# Altium footprint library NAVIGATION.PcbLib: 31 footprints (part 2 of 2)
Each footprint in its own frame and in the unit in brackets; x right, y up, seen from the top. Pads: shape width x height; smd on the part's side, far side on the other; paste and mask are expansions set on the pad; w line width, h text height; cw(c..) or ccw(c..) is an arc to the next point about the centre after c.
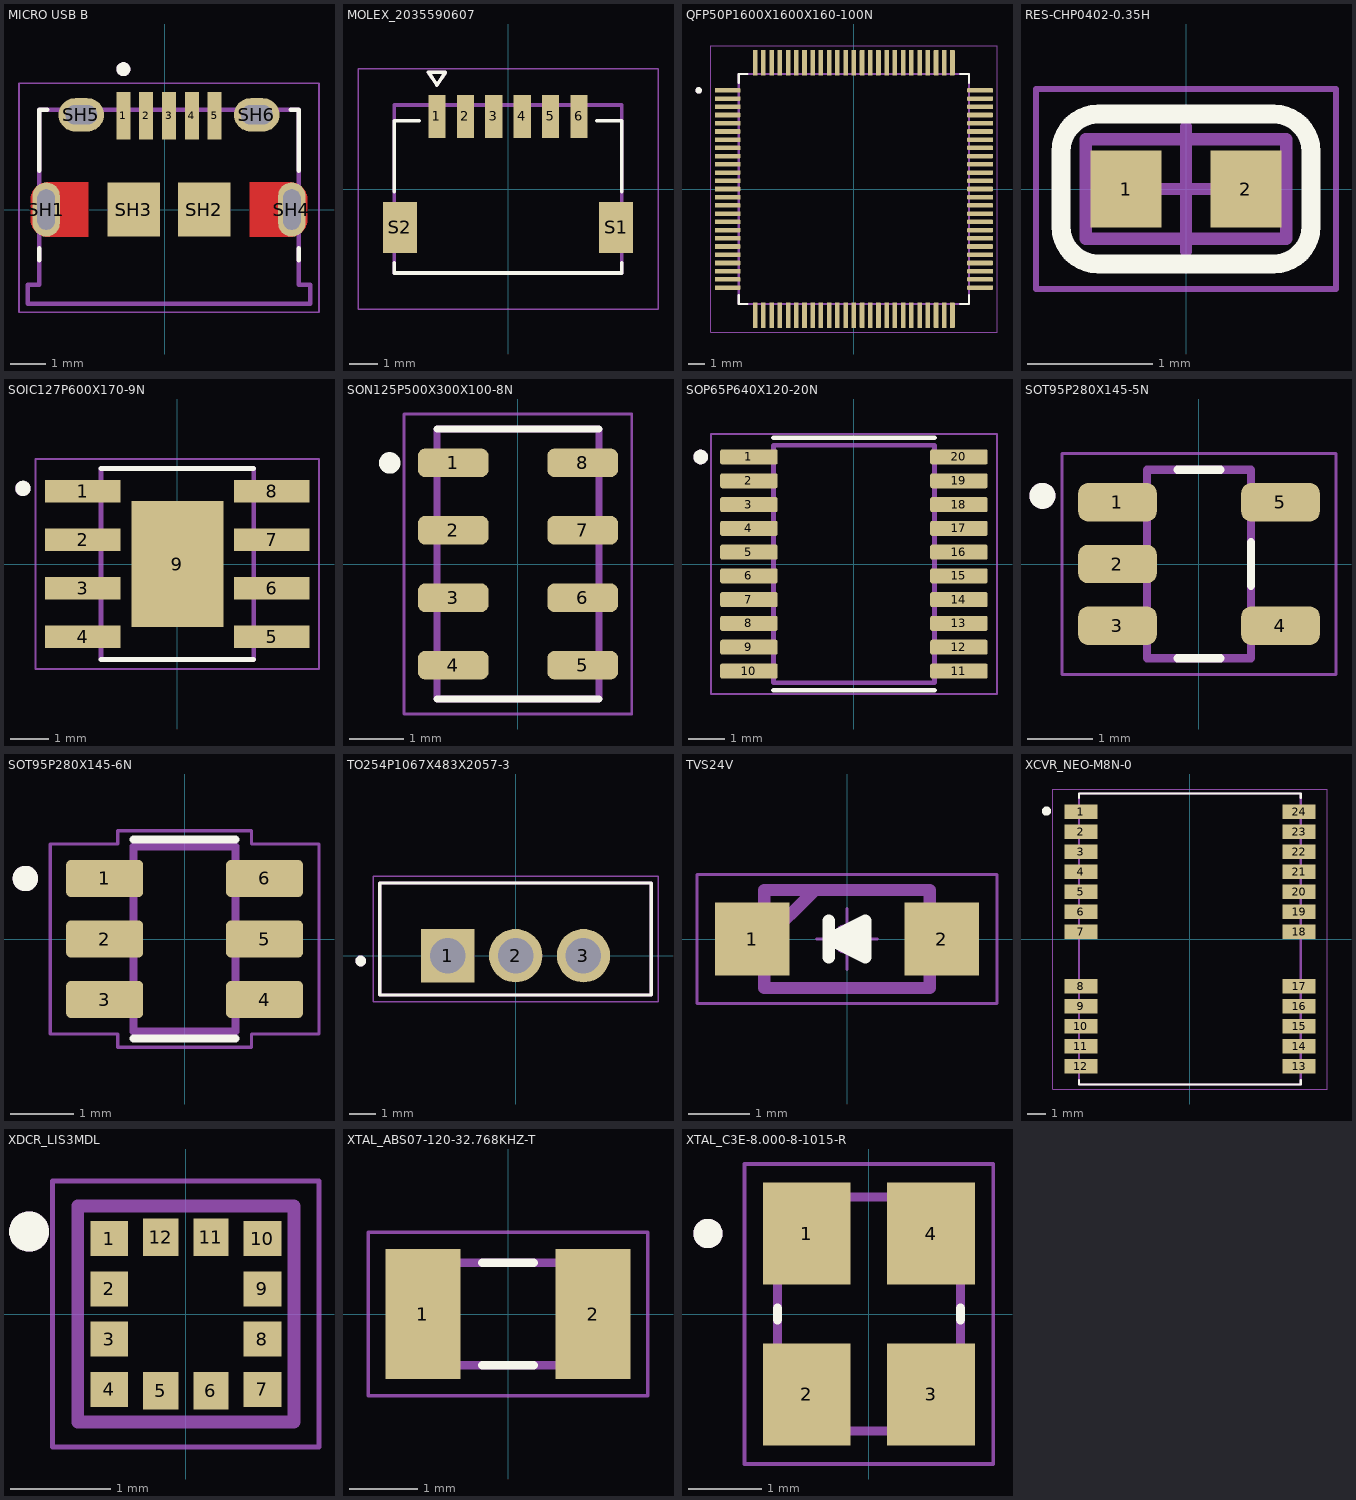
[diagram p1: the footprints below, top view; thin cyan lines are the x and y axes]

## MICRO USB B [mm]
pads (11):
  rect 0.4x1.35 smd: 1(-1.173,2.675) 2(-0.523,2.675) 3(0.127,2.675) 4(0.777,2.675) 5(1.427,2.675)
  oval 0.775x1.55 hole 0.5 slot 1.15 at 90 deg mask+0: SH1(-3.373,0) SH4(3.627,0)
  rect 1.5x1.55 smd: SH2(1.127,0) SH3(-0.873,0)
  oval 1.3x0.95 hole 0.55 slot 0.9 at 0 deg: SH5(-2.373,2.7) SH6(2.627,2.7)
Top Layer:
  region: -2.173,-0.775 -3.318,-0.775 -3.344,-0.774 -3.37,-0.772 -3.396,-0.769 -3.422,-0.764 -3.447,-0.758 -3.473,-0.751 -3.497,-0.742 -3.521,-0.732 -3.545,-0.721 -3.568,-0.708 -3.59,-0.694 -3.612,-0.68 -3.633,-0.664 -3.653,-0.647 -3.672,-0.629 -3.69,-0.61 -3.707,-0.59 -3.723,-0.569 -3.737,-0.547 -3.751,-0.525 -3.764,-0.502 -3.775,-0.478 -3.785,-0.454 -3.794,-0.43 -3.801,-0.404 -3.807,-0.379 -3.812,-0.353 -3.815,-0.327 -3.817,-0.301 -3.818,-0.275 -3.818,0.275 -3.817,0.301 -3.815,0.327 -3.812,0.353 -3.807,0.379 -3.801,0.404 -3.794,0.43 -3.785,0.454 -3.775,0.478 -3.764,0.502 -3.751,0.525 -3.737,0.547 -3.723,0.569 -3.707,0.59 -3.69,0.61 -3.672,0.629 -3.653,0.647 -3.633,0.664 -3.612,0.68 -3.59,0.694 -3.568,0.708 -3.545,0.721 -3.521,0.732 -3.497,0.742 -3.473,0.751 -3.447,0.758 -3.422,0.764 -3.396,0.769 -3.37,0.772 -3.344,0.774 -3.318,0.775 -2.173,0.775
  region: 3.598,0.774 3.624,0.772 3.65,0.769 3.676,0.764 3.701,0.758 3.727,0.751 3.751,0.742 3.775,0.732 3.799,0.721 3.822,0.708 3.844,0.694 3.866,0.68 3.887,0.664 3.907,0.647 3.926,0.629 3.944,0.61 3.961,0.59 3.977,0.569 3.991,0.547 4.005,0.525 4.018,0.502 4.029,0.478 4.039,0.454 4.048,0.43 4.055,0.404 4.061,0.379 4.066,0.353 4.069,0.327 4.071,0.301 4.072,0.275 4.072,-0.275 4.071,-0.301 4.069,-0.327 4.066,-0.353 4.061,-0.379 4.055,-0.404 4.048,-0.43 4.039,-0.454 4.029,-0.478 4.018,-0.502 4.005,-0.525 3.991,-0.547 3.977,-0.569 3.961,-0.59 3.944,-0.61 3.926,-0.629 3.907,-0.647 3.887,-0.664 3.866,-0.68 3.844,-0.694 3.822,-0.708 3.799,-0.721 3.775,-0.732 3.751,-0.742 3.727,-0.751 3.701,-0.758 3.676,-0.764 3.65,-0.769 3.624,-0.772 3.598,-0.774 3.572,-0.775 2.427,-0.775 2.427,0.775 3.572,0.775
Top Overlay:
  circle w0.2: c-1.173,4 r0.1
  lines w0.127: -3.573,-1.45 -3.573,-1.1 ; -3.573,1.1 -3.573,2.85 -3.343,2.85 ; 3.597,2.85 3.827,2.85 3.827,1.1 ; 3.827,-1.45 3.827,-1.1
Top Paste:
  region: -2.173,-0.775 -3.318,-0.775 -3.344,-0.774 -3.37,-0.772 -3.396,-0.769 -3.422,-0.764 -3.447,-0.758 -3.473,-0.751 -3.497,-0.742 -3.521,-0.732 -3.545,-0.721 -3.568,-0.708 -3.59,-0.694 -3.612,-0.68 -3.633,-0.664 -3.653,-0.647 -3.672,-0.629 -3.69,-0.61 -3.707,-0.59 -3.723,-0.569 -3.737,-0.547 -3.751,-0.525 -3.764,-0.502 -3.775,-0.478 -3.785,-0.454 -3.794,-0.43 -3.801,-0.404 -3.807,-0.379 -3.812,-0.353 -3.815,-0.327 -3.817,-0.301 -3.818,-0.275 -3.818,0.275 -3.817,0.301 -3.815,0.327 -3.812,0.353 -3.807,0.379 -3.801,0.404 -3.794,0.43 -3.785,0.454 -3.775,0.478 -3.764,0.502 -3.751,0.525 -3.737,0.547 -3.723,0.569 -3.707,0.59 -3.69,0.61 -3.672,0.629 -3.653,0.647 -3.633,0.664 -3.612,0.68 -3.59,0.694 -3.568,0.708 -3.545,0.721 -3.521,0.732 -3.497,0.742 -3.473,0.751 -3.447,0.758 -3.422,0.764 -3.396,0.769 -3.37,0.772 -3.344,0.774 -3.318,0.775 -2.173,0.775
  region: 3.598,0.774 3.624,0.772 3.65,0.769 3.676,0.764 3.701,0.758 3.727,0.751 3.751,0.742 3.775,0.732 3.799,0.721 3.822,0.708 3.844,0.694 3.866,0.68 3.887,0.664 3.907,0.647 3.926,0.629 3.944,0.61 3.961,0.59 3.977,0.569 3.991,0.547 4.005,0.525 4.018,0.502 4.029,0.478 4.039,0.454 4.048,0.43 4.055,0.404 4.061,0.379 4.066,0.353 4.069,0.327 4.071,0.301 4.072,0.275 4.072,-0.275 4.071,-0.301 4.069,-0.327 4.066,-0.353 4.061,-0.379 4.055,-0.404 4.048,-0.43 4.039,-0.454 4.029,-0.478 4.018,-0.502 4.005,-0.525 3.991,-0.547 3.977,-0.569 3.961,-0.59 3.944,-0.61 3.926,-0.629 3.907,-0.647 3.887,-0.664 3.866,-0.68 3.844,-0.694 3.822,-0.708 3.799,-0.721 3.775,-0.732 3.751,-0.742 3.727,-0.751 3.701,-0.758 3.676,-0.764 3.65,-0.769 3.624,-0.772 3.598,-0.774 3.572,-0.775 2.427,-0.775 2.427,0.775 3.572,0.775
Top Solder:
  region: -2.073,-0.875 -3.318,-0.875 -3.349,-0.874 -3.381,-0.872 -3.412,-0.868 -3.443,-0.862 -3.473,-0.855 -3.503,-0.846 -3.533,-0.835 -3.562,-0.823 -3.59,-0.81 -3.618,-0.795 -3.645,-0.778 -3.671,-0.76 -3.696,-0.741 -3.719,-0.721 -3.742,-0.699 -3.764,-0.676 -3.784,-0.653 -3.803,-0.628 -3.821,-0.602 -3.838,-0.575 -3.853,-0.547 -3.866,-0.519 -3.878,-0.49 -3.889,-0.46 -3.898,-0.43 -3.905,-0.4 -3.911,-0.369 -3.915,-0.338 -3.917,-0.306 -3.918,-0.275 -3.918,0.275 -3.917,0.306 -3.915,0.338 -3.911,0.369 -3.905,0.4 -3.898,0.43 -3.889,0.46 -3.878,0.49 -3.866,0.519 -3.853,0.547 -3.838,0.575 -3.821,0.602 -3.803,0.628 -3.784,0.653 -3.764,0.676 -3.742,0.699 -3.719,0.721 -3.696,0.741 -3.671,0.76 -3.645,0.778 -3.618,0.795 -3.59,0.81 -3.562,0.823 -3.533,0.835 -3.503,0.846 -3.473,0.855 -3.443,0.862 -3.412,0.868 -3.381,0.872 -3.349,0.874 -3.318,0.875 -2.073,0.875
  region: 3.603,0.874 3.635,0.872 3.666,0.868 3.697,0.862 3.727,0.855 3.757,0.846 3.787,0.835 3.816,0.823 3.844,0.81 3.872,0.795 3.899,0.778 3.925,0.76 3.95,0.741 3.973,0.721 3.996,0.699 4.018,0.676 4.038,0.653 4.057,0.628 4.075,0.602 4.092,0.575 4.107,0.547 4.12,0.519 4.132,0.49 4.143,0.46 4.152,0.43 4.159,0.4 4.165,0.369 4.169,0.338 4.171,0.306 4.172,0.275 4.172,-0.275 4.171,-0.306 4.169,-0.338 4.165,-0.369 4.159,-0.4 4.152,-0.43 4.143,-0.46 4.132,-0.49 4.12,-0.519 4.107,-0.547 4.092,-0.575 4.075,-0.602 4.057,-0.628 4.038,-0.653 4.018,-0.676 3.996,-0.699 3.973,-0.721 3.95,-0.741 3.925,-0.76 3.899,-0.778 3.872,-0.795 3.844,-0.81 3.816,-0.823 3.787,-0.835 3.757,-0.846 3.727,-0.855 3.697,-0.862 3.666,-0.868 3.635,-0.872 3.603,-0.874 3.572,-0.875 2.327,-0.875 2.327,0.875 3.572,0.875
Bottom Solder:
  drawing of 2 lines, arcs and shapes, not listed
Top Assembly:
  circle w0.2: c-1.173,4 r0.1
  lines w0.127: -3.898,-2.68 4.152,-2.68 4.152,-2.15 3.827,-2.15 3.827,2.85 -3.573,2.85 -3.573,-1.45 -3.573,-2.15 -3.898,-2.15 -3.898,-2.68
Mechanical 15:
  lines w0.05: -4.148,-2.93 -4.148,3.6 4.402,3.6 4.402,-2.93 -4.148,-2.93
3D body "step_temp.STEP": height 2.67, standoff -0.6, extent -3.898,-2.68 4.152,2.85

## MOLEX_2035590607 [mm]
height 4.7
pads (8):
  rect 0.6x1.5 smd mask+0.076: 1(-2.5,2.55) 2(-1.5,2.55) 3(-0.5,2.55) 4(0.5,2.55) 5(1.5,2.55) 6(2.5,2.55)
  rect 1.2x1.8 smd mask+0.076: S1(3.8,-1.35) S2(-3.8,-1.35)
Top Overlay:
  lines w0.127: -4,-2.6 -4,-2.95 4,-2.95 4,-2.6 ; -4,-0.1 -4,2.4 -3.12,2.4 ; 3.12,2.4 4,2.4 4,-0.1 ; -2.8,4.1 -2.2,4.1 -2.5,3.65 -2.8,4.1
Top Assembly:
  lines w0.127: -4,-2.95 4,-2.95 4,2.95 -4,2.95 -4,-2.95 ; -2.8,4.1 -2.2,4.1 -2.5,3.65 -2.8,4.1
Mechanical 15:
  lines w0.05: -5.27,-4.22 -5.27,4.22 5.27,4.22 5.27,-4.22 -5.27,-4.22

## QFP50P1600X1600X160-100N [mm]
pads (100):
  rrect25% 1.56x0.28 smd: 1(-7.68,6) 2(-7.68,5.5) 3(-7.68,5) 4(-7.68,4.5) 5(-7.68,4) 6(-7.68,3.5) 7(-7.68,3) 8(-7.68,2.5) 9(-7.68,2) 10(-7.68,1.5) 11(-7.68,1) 12(-7.68,0.5) 13(-7.68,0) 14(-7.68,-0.5) 15(-7.68,-1) 16(-7.68,-1.5) 17(-7.68,-2) 18(-7.68,-2.5) 19(-7.68,-3) 20(-7.68,-3.5) 21(-7.68,-4) 22(-7.68,-4.5) 23(-7.68,-5) 24(-7.68,-5.5) 25(-7.68,-6) 51(7.68,-6) 52(7.68,-5.5) 53(7.68,-5) 54(7.68,-4.5) 55(7.68,-4) 56(7.68,-3.5) 57(7.68,-3) 58(7.68,-2.5) 59(7.68,-2) 60(7.68,-1.5) 61(7.68,-1) 62(7.68,-0.5) 63(7.68,0) 64(7.68,0.5) 65(7.68,1) 66(7.68,1.5) 67(7.68,2) 68(7.68,2.5) 69(7.68,3) 70(7.68,3.5) 71(7.68,4) 72(7.68,4.5) 73(7.68,5) 74(7.68,5.5) 75(7.68,6)
  rrect25% 0.28x1.56 smd: 26(-6,-7.68) 27(-5.5,-7.68) 28(-5,-7.68) 29(-4.5,-7.68) 30(-4,-7.68) 31(-3.5,-7.68) 32(-3,-7.68) 33(-2.5,-7.68) 34(-2,-7.68) 35(-1.5,-7.68) 36(-1,-7.68) 37(-0.5,-7.68) 38(0,-7.68) 39(0.5,-7.68) 40(1,-7.68) 41(1.5,-7.68) 42(2,-7.68) 43(2.5,-7.68) 44(3,-7.68) 45(3.5,-7.68) 46(4,-7.68) 47(4.5,-7.68) 48(5,-7.68) 49(5.5,-7.68) 50(6,-7.68) 76(6,7.68) 77(5.5,7.68) 78(5,7.68) 79(4.5,7.68) 80(4,7.68) 81(3.5,7.68) 82(3,7.68) 83(2.5,7.68) 84(2,7.68) 85(1.5,7.68) 86(1,7.68) 87(0.5,7.68) 88(0,7.68) 89(-0.5,7.68) 90(-1,7.68) 91(-1.5,7.68) 92(-2,7.68) 93(-2.5,7.68) 94(-3,7.68) 95(-3.5,7.68) 96(-4,7.68) 97(-4.5,7.68) 98(-5,7.68) 99(-5.5,7.68) 100(-6,7.68)
Top Overlay:
  circle w0.2: c-9.44,6 r0.1
  lines w0.127: -7,-6.46 -7,-7 -6.46,-7 ; -7,6.46 -7,7 -6.46,7 ; 6.46,-7 7,-7 7,-6.46 ; 6.46,7 7,7 7,6.46
Top Assembly:
  circle w0.2: c-9.44,6 r0.1
  lines w0.127: -7,-7 7,-7 7,7 -7,7 -7,-7
Mechanical 15:
  lines w0.05: -8.71,-8.71 8.71,-8.71 8.71,8.71 -8.71,8.71 -8.71,-8.71
3D body "step_temp.STEP": height 1.6, standoff 0, extent -8,-8 8,8

## RES-CHP0402-0.35H [mm]
pads (2):
  rect 0.57x0.62 smd: 1(-0.48,0) 2(0.48,0)
Top Overlay:
  lines w0.152: -1,-0.3 ccw(c-0.7,-0.3) -0.7,-0.6 0.7,-0.6 ccw(c0.7,-0.3) 1,-0.3 1,0.3 ccw(c0.7,0.3) 0.7,0.6 -0.7,0.6 ccw(c-0.7,0.3) -1,0.3 -1,-0.3
Top Courtyard:
  lines w0.05: -1.2,-0.8 -1.2,0.8 1.2,0.8 1.2,-0.8 -1.2,-0.8
  lines w0.1: -0.5,0 0.5,0 ; 0,-0.5 0,0.5
Top Value:
  lines w0.1: -0.8,-0.4 0.8,-0.4 0.8,0.4 -0.8,0.4 -0.8,-0.4
  text "'.Comment'" at -3.512,-0.512 h1.6
Top Assembly:
  lines w0.1: -0.8,-0.4 0.8,-0.4 0.8,0.4 -0.8,0.4 -0.8,-0.4
  text "'.Designator'" at -3.872,-0.362 h1.6
Mechanical 20:
  lines w0.1: -0.8,-0.4 0.8,-0.4 0.8,0.4 -0.8,0.4 -0.8,-0.4
  text "'.Designator'" at -3.872,-0.362 h1.6
3D body "RES-0402-0.35H_N.STEP": height 0.35, standoff 0, extent -0.48,-0.25 0.52,0.25

## SOIC127P600X170-9N [mm]
pads (9):
  rect 1.97x0.6 smd: 1(-2.475,1.905) 2(-2.475,0.635) 3(-2.475,-0.635) 4(-2.475,-1.905) 5(2.475,-1.905) 6(2.475,-0.635) 7(2.475,0.635) 8(2.475,1.905)
  rect 2.41x3.3 smd paste-3: 9(0,0)
Top Overlay:
  circle w0.2: c-4.04,1.98 r0.1
  lines w0.127: -2,-2.5 2,-2.5 ; -2,2.5 2,2.5
Top Paste:
  region: 0.762,-1.042 -0.763,-1.042 -0.763,1.04 0.762,1.04
Top Assembly:
  circle w0.2: c-4.044,1.977 r0.1
  lines w0.127: -2,-2.5 2,-2.5 2,2.5 -2,2.5 -2,-2.5
Mechanical 15:
  lines w0.05: -3.71,-2.75 3.71,-2.75 3.71,2.75 -3.71,2.75 -3.71,-2.75
3D body "step_temp.STEP": height 1.7, standoff 0, extent -3,-2.45 3,2.45

## SON125P500X300X100-8N [mm]
pads (8):
  rrect50% 1.31x0.53 smd: 1(-1.2,1.875) 2(-1.2,0.625) 3(-1.2,-0.625) 4(-1.2,-1.875) 5(1.2,-1.875) 6(1.2,-0.625) 7(1.2,0.625) 8(1.2,1.875)
Top Overlay:
  circle w0.2: c-2.377,1.873 r0.1
  lines w0.127: -1.5,-2.5 1.5,-2.5 ; -1.5,2.5 1.5,2.5
Top Assembly:
  lines w0.127: -1.5,-2.5 1.5,-2.5 1.5,2.5 -1.5,2.5 -1.5,-2.5
Mechanical 15:
  lines w0.05: -2.11,-2.78 2.11,-2.78 2.11,2.78 -2.11,2.78 -2.11,-2.78
3D body "step_temp.STEP": height 1.1, standoff 0, extent -1.5,-2.5 1.5,2.5

## SOP65P640X120-20N [mm]
pads (20):
  rrect25% 1.57x0.41 smd: 1(-2.87,2.925) 2(-2.87,2.275) 3(-2.87,1.625) 4(-2.87,0.975) 5(-2.87,0.325) 6(-2.87,-0.325) 7(-2.87,-0.975) 8(-2.87,-1.625) 9(-2.87,-2.275) 10(-2.87,-2.925) 11(2.87,-2.925) 12(2.87,-2.275) 13(2.87,-1.625) 14(2.87,-0.975) 15(2.87,-0.325) 16(2.87,0.325) 17(2.87,0.975) 18(2.87,1.625) 19(2.87,2.275) 20(2.87,2.925)
Top Overlay:
  circle w0.2: c-4.19,2.925 r0.1
  lines w0.127: -2.2,-3.45 2.2,-3.45 ; -2.2,3.45 2.2,3.45
Top Assembly:
  circle w0.2: c-4.19,2.925 r0.1
  lines w0.127: -2.2,-3.25 2.2,-3.25 2.2,3.25 -2.2,3.25 -2.2,-3.25
Mechanical 15:
  lines w0.05: -3.91,-3.55 3.91,-3.55 3.91,3.55 -3.91,3.55 -3.91,-3.55

## SOT95P280X145-5N [mm]
pads (5):
  rrect50% 1.21x0.59 smd: 1(-1.255,0.95) 2(-1.255,0) 3(-1.255,-0.95) 4(1.255,-0.95) 5(1.255,0.95)
Top Overlay:
  circle w0.2: c-2.41,1.05 r0.1
  lines w0.127: -0.33,-1.45 0.33,-1.45 ; -0.33,1.45 0.33,1.45 ; 0.8,-0.335 0.8,0.335
Top Assembly:
  circle w0.2: c-2.41,1.05 r0.1
  lines w0.127: -0.8,-1.45 0.8,-1.45 0.8,1.45 -0.8,1.45 -0.8,-1.45
Mechanical 15:
  lines w0.05: -2.11,-1.7 -2.11,1.7 2.11,1.7 2.11,-1.7 -2.11,-1.7
3D body "step_temp.STEP": height 1.45, standoff 0, extent -1.4,-1.45 1.4,1.45

## SOT95P280X145-6N [mm]
pads (6):
  rrect25% 1.21x0.58 smd: 1(-1.255,0.95) 2(-1.255,0) 3(-1.255,-0.95) 4(1.255,-0.95) 5(1.255,0) 6(1.255,0.95)
Top Overlay:
  circle w0.2: c-2.5,0.95 r0.1
  lines w0.127: -0.8,-1.56 0.8,-1.56 ; -0.8,1.56 0.8,1.56
Top Assembly:
  circle w0.2: c-2.5,0.95 r0.1
  lines w0.127: -0.8,-1.45 -0.8,1.45 0.8,1.45 0.8,-1.45 -0.8,-1.45
Mechanical 15:
  lines w0.05: -2.11,-1.49 -2.11,1.49 -1.05,1.49 -1.05,1.7 1.05,1.7 1.05,1.49 2.11,1.49 2.11,-1.49 1.05,-1.49 1.05,-1.7 -1.05,-1.7 -1.05,-1.49 -2.11,-1.49
3D body "step_temp.STEP": height 1.45, standoff 0, extent -1.4,-1.45 1.4,1.45

## TO254P1067X483X2057-3 [mm]
height 20.57
pads (3):
  rect 2x2 / inner round 2 / far side rect 2x2 hole 1.33: 1(-2.54,0)
  round 2 hole 1.33: 2(0,0) 3(2.54,0)
Top Overlay:
  circle w0.2: c-5.8,-0.2 r0.1
  lines w0.127: -5.08,-1.475 -5.08,2.72 5.08,2.72 5.08,-1.475 -5.08,-1.475
Top Assembly:
  circle w0.2: c-5.8,-0.2 r0.1
  lines w0.127: -5.08,-1.475 5.08,-1.475 5.08,2.72 -5.08,2.72 -5.08,-1.475
Mechanical 15:
  lines w0.05: -5.33,-1.725 5.33,-1.725 5.33,2.97 -5.33,2.97 -5.33,-1.725
3D body "step_temp.STEP": height 20.57, standoff -10.67, extent -5.08,-1.473 5.08,2.718

## TVS24V [mm]
pads (2):
  rect 1.22x1.2 smd paste-2: 1(-1.55,0) 2(1.55,0)
Top Overlay:
  lines w0.2: -0.3,-0.3 -0.3,0 ; -0.3,0.3 -0.3,0 ; 0.2,0.1 -0.3,0 ; -0.3,0 0.3,-0.1 ; -0.3,0 0.3,-0.3 0.3,-0.1 ; -0.3,0 0.3,0.3 0.3,0 ; -0.3,0 0.3,0 ; 0.3,-0.1 0.3,0
Top Paste:
  region: 2.105,-0.535 1,-0.535 1,0.545 2.105,0.545
  region: -0.995,-0.535 -2.1,-0.535 -2.1,0.545 -0.995,0.545
  lines w0.05: -2.11,-0.495 ccw(c-2.06,-0.495) -2.06,-0.545 -1.04,-0.545 ccw(c-1.04,-0.495) -0.99,-0.495 -0.99,0.5 ccw(c-1.04,0.5) -1.04,0.55 -2.06,0.55 ccw(c-2.06,0.5) -2.11,0.5 -2.11,-0.495 ; 0.99,-0.495 ccw(c1.04,-0.495) 1.04,-0.545 2.06,-0.545 ccw(c2.06,-0.495) 2.11,-0.495 2.11,0.5 ccw(c2.06,0.5) 2.06,0.55 1.04,0.55 ccw(c1.04,0.5) 0.99,0.5 0.99,-0.495
Top Assembly:
  lines w0.2: -1.35,-0.025 -0.525,0.8 ; -1.35,-0.8 -1.35,0.8 1.35,0.8 1.35,-0.8 -1.35,-0.8
Mechanical 15:
  circle w0.05: c0,0 r0.224
  lines w0.05: -0.5,0 0.5,0 ; 0,-0.5 0,0.5 ; -2.45,-1.05 2.45,-1.05 2.45,1.05 -2.45,1.05 -2.45,-1.05
3D body "step_temp.STEP": height 1, standoff -0.1, extent -1.828,-0.88 1.822,0.87

## XCVR_NEO-M8N-0 [mm]
pads (24):
  rect 1.8x0.8 smd paste-2: 1(-6,7) 2(-6,5.9) 3(-6,4.8) 4(-6,3.7) 5(-6,2.6) 6(-6,1.5) 7(-6,0.4) 8(-6,-2.6) 9(-6,-3.7) 10(-6,-4.8) 11(-6,-5.9) 12(-6,-7) 13(6,-7) 14(6,-5.9) 15(6,-4.8) 16(6,-3.7) 17(6,-2.6) 18(6,0.4) 19(6,1.5) 20(6,2.6) 21(6,3.7) 22(6,4.8) 23(6,5.9) 24(6,7)
Top Overlay:
  circle w0.3: c-7.889,7.036 r0.1
  lines w0.127: -6.1,-7.75 -6.1,-8 6.1,-8 6.1,-7.75 ; -6.1,7.75 -6.1,8 6.1,8 6.1,7.75
Top Paste:
  drawing of 48 lines, arcs and shapes, not listed
Top Assembly:
  lines w0.127: -6.1,-8 6.1,-8 6.1,8 -6.1,8 -6.1,-8
Mechanical 15:
  lines w0.05: -7.55,-8.25 7.55,-8.25 7.55,8.25 -7.55,8.25 -7.55,-8.25
3D body "step_temp.STEP": height 2.6, standoff 0, extent -6.1,-8 6.1,8

## XDCR_LIS3MDL [mm]
height 1
pads (12):
  rect 0.375x0.35 smd mask+0.05: 1(-0.763,0.75) 2(-0.763,0.25) 3(-0.763,-0.25) 4(-0.763,-0.75) 7(0.763,-0.75) 8(0.763,-0.25) 9(0.763,0.25) 10(0.763,0.75)
  rect 0.35x0.375 smd mask+0: 5(-0.25,-0.763) 6(0.25,-0.763) 11(0.25,0.763) 12(-0.25,0.763)
Top Overlay:
  circle w0.2: c-1.56,0.82 r0.1
Top Solder:
  region: -0.025,-1 -0.475,-1 -0.475,-0.525 -0.025,-0.525
  region: -0.025,0.525 -0.475,0.525 -0.475,1 -0.025,1
  region: 0.475,0.525 0.025,0.525 0.025,1 0.475,1
  region: 0.475,-1 0.025,-1 0.025,-0.525 0.475,-0.525
Top Assembly:
  circle w0.2: c-1.56,0.82 r0.1
  lines w0.127: -1.075,-1.075 -1.075,1.075 1.075,1.075 1.075,-1.075 -1.075,-1.075
Mechanical 15:
  lines w0.05: -1.325,-1.325 -1.325,1.325 1.325,1.325 1.325,-1.325 -1.325,-1.325
3D body "step_temp.STEP": height 1, standoff 0, extent -1,-1 1,1

## XTAL_ABS07-120-32.768KHZ-T [mm]
height 0.9
pads (2):
  rect 1.1x1.9 smd: 1(-1.25,0) 2(1.25,0)
Top Overlay:
  lines w0.127: -0.38,-0.75 0.38,-0.75 ; -0.38,0.75 0.38,0.75
Top Assembly:
  lines w0.127: -1.6,-0.75 -1.6,0.75 1.6,0.75 1.6,-0.75 -1.6,-0.75
Mechanical 15:
  lines w0.05: -2.05,-1.2 -2.05,1.2 2.05,1.2 2.05,-1.2 -2.05,-1.2
3D body "step_temp.STEP": height 0.89, standoff 0, extent -1.6,-0.749 1.6,0.749

## XTAL_C3E-8.000-8-1015-R [mm]
height 0.75
pads (4):
  rect 1.2x1.4 smd: 1(-0.85,1.1) 2(-0.85,-1.1) 3(0.85,-1.1) 4(0.85,1.1)
Top Overlay:
  circle w0.2: c-2.2,1.1 r0.1
  lines w0.127: -1.25,-0.08 -1.25,0.08 ; 1.25,-0.08 1.25,0.08
Top Assembly:
  circle w0.2: c-2.2,1.1 r0.1
  lines w0.127: -1.25,-1.6 1.25,-1.6 1.25,1.6 -1.25,1.6 -1.25,-1.6
Mechanical 15:
  lines w0.05: -1.7,-2.05 1.7,-2.05 1.7,2.05 -1.7,2.05 -1.7,-2.05
3D body "step_temp.STEP": height 0.75, standoff 0, extent -1.25,-1.6 1.25,1.6